# EAGLE library part 66201221122 (library Wire-to-Board (rev18a))
WR-MPC3 3.00mm Male Dual Row Vertical Header, 12 Pins=>Code : Con_WTB_MPC3_2_PCB_THT_66201221122 <http://katalog.we-online.de/media/thumbs2/eican/thb_Con_WTB_MPC3_2_PCB_THT_6620xx21122_pf2.jpg> Details see: http://katalog.we-online.de/en/em/MPC3_3_00_MALE_DUAL_ROW_VERTICAL_HEADER_6620XX21122 Created 2014-06-06, Karrer Zheng 2014 (C) Würth Elektronik
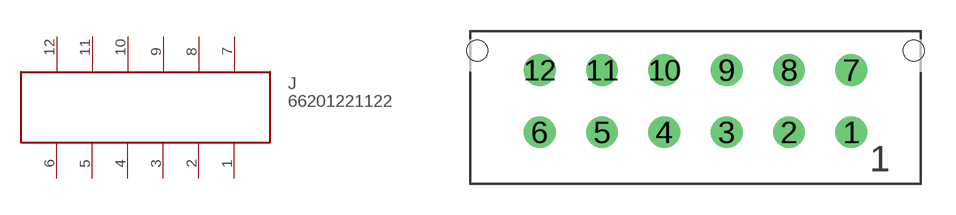
[diagram p361: symbol with the pads of 66201221122; footprint 66201221122]

Designator prefix J

## 66201221122  [66201221122]
1  1
2  2
3  3
4  4
5  5
6  6
7  7
8  8
9  9
10  10
11  11
12  12

## Footprint 66201221122 (pad centres in mm)
WR-MPC3-3.00mm Male Dual Row Vertical Header,12 pins
drill 1.02: 1 7.5,-1.5; 2 4.5,-1.5; 3 1.5,-1.5; 4 -1.5,-1.5; 5 -4.5,-1.5; 6 -7.5,-1.5; 7 7.5,1.5; 8 4.5,1.5; 9 1.5,1.5; 10 -1.5,1.5; 11 -4.5,1.5; 12 -7.5,1.5
hole 1.02 at -10.5,2.44
hole 1.02 at 10.5,2.44